# Altium footprint library LED0603.PcbLib: 1 footprints
Each footprint in its own frame and in the unit in brackets; x right, y up, seen from the top. Pads: shape width x height; smd on the part's side, far side on the other; paste and mask are expansions set on the pad; w line width, h text height; cw(c..) or ccw(c..) is an arc to the next point about the centre after c.
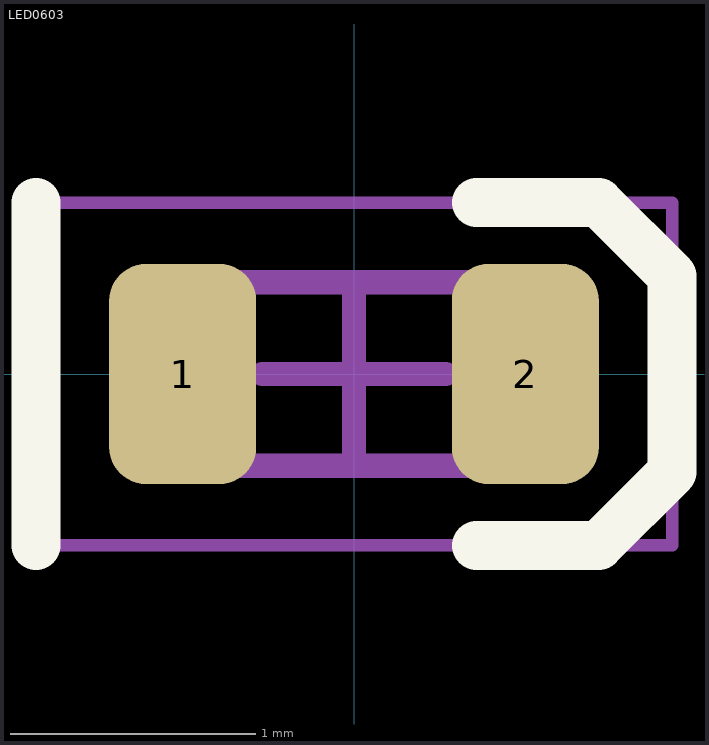
[diagram p0: the footprint, top view; thin cyan lines are the x and y axes]

## LED0603 [mm] "Chip LED, 2-Leads, Body 1.57x0.85mm, IPC Medium Density"
height 0.5
pads (2):
  rrect50% 0.6x0.9 smd: 1(-0.7,0) 2(0.7,0)
Top Overlay:
  lines w0.2: -1.3,-0.7 -1.3,0.7 ; 0.5,-0.7 1,-0.7 1.3,-0.4 1.3,0.4 1,0.7 0.5,0.7
Mechanical 13:
  lines w0.1: -0.75,-0.375 0.75,-0.375 0.75,0.375 -0.75,0.375 -0.75,-0.375
Mechanical 15:
  lines w0.05: -1.3,-0.7 1.3,-0.7 1.3,0.7 -1.3,0.7 -1.3,-0.7
  lines w0.1: -0.375,0 0.375,0 ; 0,-0.375 0,0.375
Mechanical 17:
  lines w0.05: -1.3,-0.7 -1.3,0.7 1.3,0.7 1.3,-0.7 -1.3,-0.7
  text ".Designator" at -1.1,-0.3 h0.5
Mechanical 19:
  lines w0.05: -1.3,-0.7 -1.3,0.7 1.3,0.7 1.3,-0.7 -1.3,-0.7
  text ".Comment" at -1.1,-0.3 h0.5
3D body: height 0.68, standoff 0, extent -0.824,-0.368 0.826,0.357